# Altium schematic symbol library Schottky_Diode.SchLib: 1 symbol
Pins are listed as number, name and electrical type; pins without a type are passive.

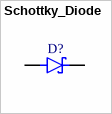
[diagram p0: symbol Schottky_Diode]

## Schottky_Diode
designator D?
MF: Taiwan Semiconductor; MP: SS310LWH; Value: *; Price: None; Package: SOD-123W-2 Taiwan Semiconductor; Check_prices: https://www.snapeda.com/parts/SS310LWH/Taiwan+Semiconductor/view-part/?ref=eda; Availability: In Stock; SnapEDA_Link: https://www.snapeda.com/parts/SS310LWH/Taiwan+Semiconductor/view-part/?ref=snap; Purchase-URL: https://pricing.snapeda.com/search/part/SS310LWH/?ref=eda
footprint SODFL3718X102N
pins: A Anode, C Cathode